# EAGLE library part SN74AVC4T245 (library laforge)
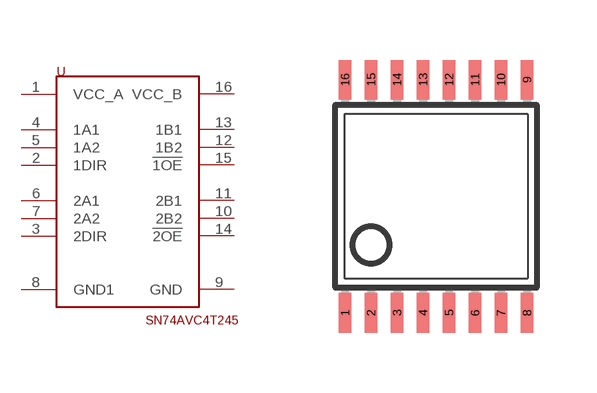
[diagram p11: symbol with the pads of TSSOP16; footprint TSSOP16]

Designator prefix -

## SN74AVC4T245  [TSSOP16]
1  VCC_A
2  1DIR  in
3  2DIR  in
4  1A1
5  1A2
6  2A1
7  2A2
8  GND1  pas
9  GND  pas
10  2B2
11  2B1
12  1B2
13  1B1
14  !2OE  in
15  !1OE  in
16  VCC_B  pwr

## Footprint TSSOP16 (pad centres in mm)
smd 0.305 x 0.991: 1 -2.275,-2.918; 2 -1.625,-2.918; 3 -0.975,-2.918; 4 -0.325,-2.918; 5 0.325,-2.918; 6 0.975,-2.918; 7 1.625,-2.918; 8 2.275,-2.918; 9 2.275,2.918; 10 1.625,2.918; 11 0.975,2.918; 12 0.325,2.918; 13 -0.325,2.918; 14 -0.975,2.918; 15 -1.625,2.918; 16 -2.275,2.918